# EAGLE library part TPS63021 (library telemetry-board)
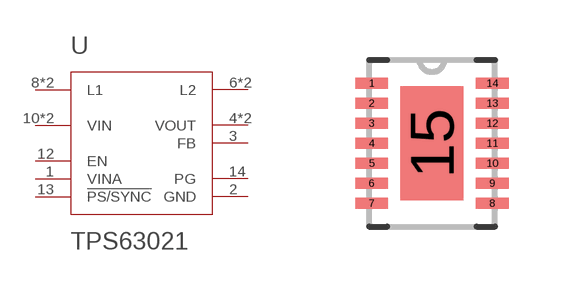
[diagram p7: symbol with the pads of VSON-14-4X3; footprint VSON-14-4X3]

Designator prefix -

## TPS63021  [VSON-14-4X3]
1  VINA  in
2  GND  pwr
3  FB  in
4  VOUT  out
5  VOUT  out
6  L2  in
7  L2  in
8  L1  in
9  L1  in
10  VIN  in
11  VIN  in
12  EN  in
13  !PS/SYNC  in
14  PG  out

## Footprint VSON-14-4X3 (pad centres in mm)
smd 0.82 x 0.28: 1 -1.51,1.5; 2 -1.51,1; 3 -1.51,0.5; 4 -1.51,0; 5 -1.51,-0.5; 6 -1.51,-1; 7 -1.51,-1.5; 8 1.51,-1.5; 9 1.51,-1; 10 1.51,-0.5; 11 1.51,0; 12 1.51,0.5; 13 1.51,1; 14 1.51,1.5
smd 1.58 x 2.85: 15 0,0